# Altium schematic symbol library Lib_lhy.SchLib: 23 symbols
Pins are listed as number, name and electrical type; pins without a type are passive.

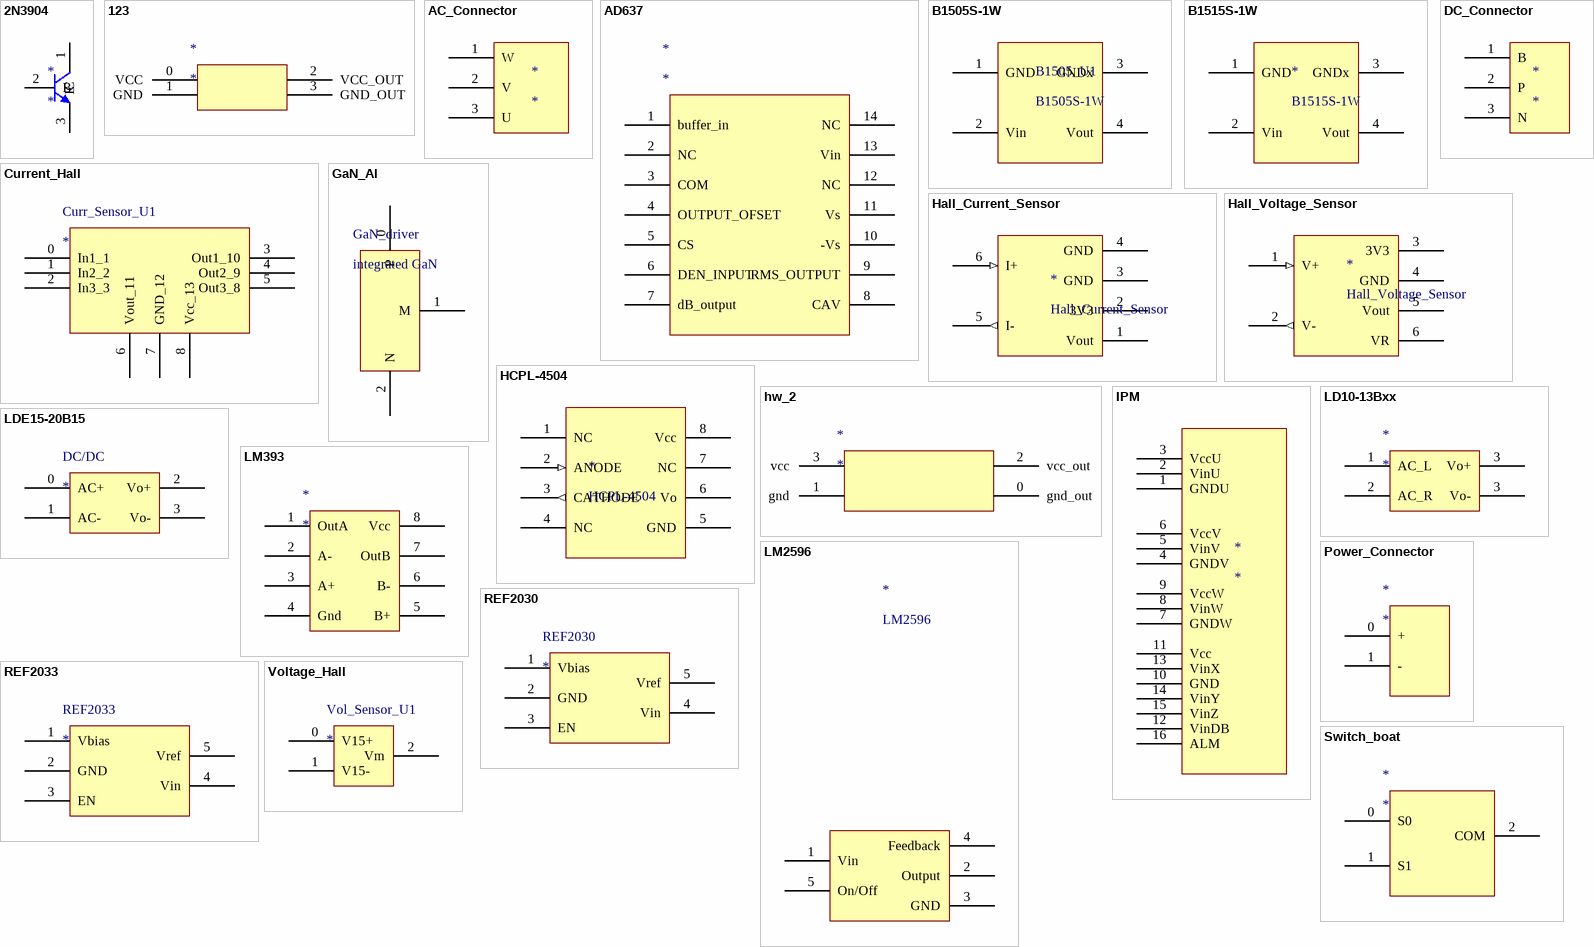
[diagram p0: symbols 2N3904 to Voltage_Hall]

## 2N3904
designator *
footprint TO-92
pins: 1 C, 2 B, 3 E

## 123
designator *
footprint 123
pins: 0 VCC, 1 GND, 2 VCC_OUT, 3 GND_OUT

## AC_Connector
designator *
footprint DG636_3PIN
pins: 1 W, 2 V, 3 U

## AD637
designator *
pins: 1 buffer_in, 2 NC, 3 COM, 4 OUTPUT_OFSET, 5 CS, 6 DEN_INPUT, 7 dB_output, 8 CAV, 9 RMS_OUTPUT, 10 -Vs, 11 Vs, 12 NC, 13 Vin, 14 NC

## B1505S-1W
designator B1505_U1
footprint B1515S-1W
pins: 1 GND, 2 Vin, 3 GNDx, 4 Vout

## B1515S-1W
designator *
footprint B1515S-1W
pins: 1 GND, 2 Vin, 3 GNDx, 4 Vout

## Current_Hall
designator Curr_Sensor_U1
pins: 0 In1_1, 1 In2_2, 2 In3_3, 3 Out1_10, 4 Out2_9, 5 Out3_8, 6 Vout_11, 7 GND_12, 8 Vcc_13

## DC_Connector
designator *
footprint DG636_3PIN
pins: 1 B, 2 P, 3 N

## GaN_Al
designator GaN_driver, comment integrated GaN
footprint GaN_driver (Footprint not found)
pins: 0 P, 1 M, 2 N

## Hall_Current_Sensor
designator *
footprint Current_Hall
pins: 1 Vout, 2 3V3, 3 GND, 4 GND, 5 I- (out), 6 I+ (in)

## Hall_Voltage_Sensor
designator *
footprint VOLTAGE_HALL
pins: 1 V+ (in), 2 V- (out), 3 3V3, 4 GND, 5 Vout, 6 VR

## HCPL-4504
designator *
footprint DIP8
pins: 1 NC, 2 ANODE (in), 3 CATHODE (out), 4 NC, 5 GND, 6 Vo, 7 NC, 8 Vcc

## hw_2
designator *
footprint B1515S-1W
pins: 0 gnd_out, 1 gnd, 2 vcc_out, 3 vcc (power)

## IPM
designator *
footprint IPM
pins: 1 GNDU, 2 VinU, 3 VccU, 4 GNDV, 5 VinV, 6 VccV, 7 GNDW, 8 VinW, 9 VccW, 10 GND, 11 Vcc, 12 VinDB, 13 VinX, 14 VinY, 15 VinZ, 16 ALM

## LD10-13Bxx
designator *
pins: 1 AC_L, 2 AC_R, 3 Vo+, 3 Vo-

## LDE15-20B15
designator DC/DC
pins: 0 AC+, 1 AC-, 2 Vo+, 3 Vo-

## LM393
designator *
pins: 1 OutA, 2 A-, 3 A+, 4 Gnd, 5 B+, 6 B-, 7 OutB, 8 Vcc

## LM2596
designator *
footprint TO220V-5L
pins: 1 Vin, 2 Output, 3 GND, 4 Feedback, 5 On/Off

## Power_Connector
designator *
pins: 0 +, 1 -

## REF2030
designator REF2030
pins: 1 Vbias, 2 GND, 3 EN, 4 Vin, 5 Vref

## REF2033
designator REF2033
pins: 1 Vbias, 2 GND, 3 EN, 4 Vin, 5 Vref

## Switch_boat
designator *
pins: 0 S0, 1 S1, 2 COM

## Voltage_Hall
designator Vol_Sensor_U1
pins: 0 V15+, 1 V15-, 2 Vm